# EAGLE library part MX25L512 (library MX25L512)
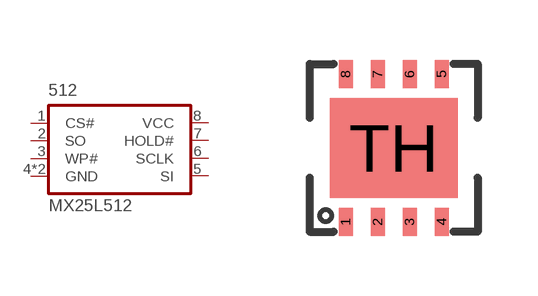
[diagram p0: symbol with the pads of MX25L512; footprint MX25L512]

Designator prefix 512

## MX25L512MX25L512  [MX25L512]
1  CS#
2  SO
3  WP#
4  GND
5  SI
6  SCLK
7  HOLD#
8  VCC
TH  GND

## Footprint MX25L512 (pad centres in mm)
smd 0.35 x 0.7: 1 -1.2,-1.85; 2 -0.4,-1.85; 3 0.4,-1.85; 4 1.2,-1.85; 5 1.2,1.85; 6 0.4,1.85; 7 -0.4,1.85; 8 -1.2,1.85
smd 3.2 x 2.5: TH 0,0